# Altium integrated library Capacitors - Aluminum - Electrolytic SMT.IntLib: 1988 symbols (part 9 of 50)
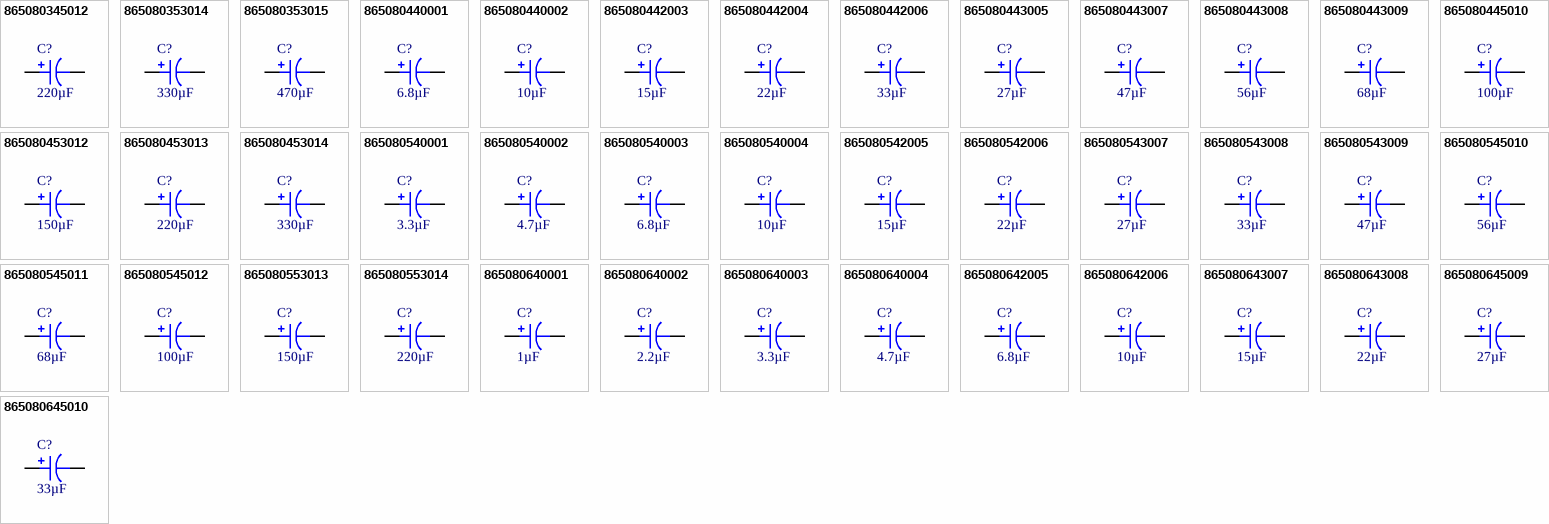
[diagram p57: symbols 865080345012 to 865080645010]

## 865080353015
designator C?, comment 470µF
CAP 470 UF 20% 16 V; Part Number: 865080353015; Manufacturer: Würth Elektronik; Impedance: 220 mOhms; Lifetime @ Temp.: 2000 Hrs @ 105°C; Polarization: Polar; Ripple Current @ High Frequency: 590mA @ 100kHz; Ripple Current @ Low Frequency: 383.5mA @ 120Hz; Surface Mount Land Size: 0.327" L x 0.327" W (8.30mm x 8.30mm); Voltage - Rated: 16V; Applications: General Purpose; Capacitance: 470µF; ComponentLink1Description: Datasheet; ComponentLink1URL: https://katalog.we-online.de/pbs/datasheet/865080353015.pdf; ComponentLink2Description: DigiKey Link; ComponentLink2URL: http://digikey.com/product-detail/en/w-rth-elektronik/865080353015/732-8425-1-ND/5728382; Device Package: Radial, Can - SMD; Height - Seated (Max): 0.413" (10.50mm); LastUpdated: 9/2/2020 1:25:14 AM; Lifecycle Status: Active; Minimum Order: 1; Mounting Type: Surface Mount; Operating Temperature: -55°C ~ 105°C; Package / Case: Radial, Can - SMD; Packaging: TapeAndReel; PartId: 7719; Part Status: Active; Price: 0.34; Series: WCAP-ASLI; Size / Dimension: 0.315" Dia (8.00mm); Supplier 1: DigiKey; Supplier Part Number 1: 732-8425-1-ND; Tolerance: ±20%; Value: 470µF
footprint CAP ALSMD 8.3MM H10.5MM
pins: 1, 2

## 865080440001
designator C?, comment 6.8µF
CAP 6.8 UF 20% 25 V; Part Number: 865080440001; Manufacturer: Würth Elektronik; Impedance: 2.8 Ohms; Lifetime @ Temp.: 2000 Hrs @ 105°C; Polarization: Polar; Ripple Current @ High Frequency: 70mA @ 100kHz; Ripple Current @ Low Frequency: 41.3mA @ 120Hz; Surface Mount Land Size: 0.169" L x 0.169" W (4.30mm x 4.30mm); Voltage - Rated: 25V; Applications: General Purpose; Capacitance: 6.8µF; ComponentLink1Description: Datasheet; ComponentLink1URL: https://katalog.we-online.de/pbs/datasheet/865080440001.pdf; ComponentLink2Description: DigiKey Link; ComponentLink2URL: http://digikey.com/product-detail/en/w-rth-elektronik/865080440001/732-8429-1-ND/5728386; Device Package: Radial, Can - SMD; Height - Seated (Max): 0.217" (5.50mm); LastUpdated: 9/2/2020 1:23:45 AM; Lifecycle Status: Active; Minimum Order: 1; Mounting Type: Surface Mount; Operating Temperature: -55°C ~ 105°C; Package / Case: Radial, Can - SMD; Packaging: TapeAndReel; PartId: 7395; Part Status: Active; Price: 0.09; Series: WCAP-ASLI; Size / Dimension: 0.157" Dia (4.00mm); Supplier 1: DigiKey; Supplier Part Number 1: 732-8429-1-ND; Tolerance: ±20%; Value: 6.8µF
footprint CAP ALSMD POLY 4.3MM H5.5MM
pins: 1, 2

## 865080440002
designator C?, comment 10µF
CAP 10 UF 20% 25 V; Part Number: 865080440002; Manufacturer: Würth Elektronik; Impedance: 2.1 Ohms; Lifetime @ Temp.: 2000 Hrs @ 105°C; Polarization: Polar; Ripple Current @ High Frequency: 85mA @ 100kHz; Ripple Current @ Low Frequency: 50.15mA @ 120Hz; Surface Mount Land Size: 0.169" L x 0.169" W (4.30mm x 4.30mm); Voltage - Rated: 25V; Applications: General Purpose; Capacitance: 10µF; ComponentLink1Description: Datasheet; ComponentLink1URL: https://katalog.we-online.de/pbs/datasheet/865080440002.pdf; ComponentLink2Description: DigiKey Link; ComponentLink2URL: http://digikey.com/product-detail/en/w-rth-elektronik/865080440002/732-8430-1-ND/5728387; Device Package: Radial, Can - SMD; Height - Seated (Max): 0.217" (5.50mm); LastUpdated: 9/2/2020 1:23:44 AM; Lifecycle Status: Active; Minimum Order: 1; Mounting Type: Surface Mount; Operating Temperature: -55°C ~ 105°C; Package / Case: Radial, Can - SMD; Packaging: TapeAndReel; PartId: 7399; Part Status: Active; Price: 0.09; Series: WCAP-ASLI; Size / Dimension: 0.157" Dia (4.00mm); Supplier 1: DigiKey; Supplier Part Number 1: 732-8430-1-ND; Tolerance: ±20%; Value: 10µF
footprint CAP ALSMD POLY 4.3MM H5.5MM
pins: 1, 2

## 865080442003
designator C?, comment 15µF
CAP 15 UF 20% 25 V; Part Number: 865080442003; Manufacturer: Würth Elektronik; Impedance: 1.9 Ohms; Lifetime @ Temp.: 2000 Hrs @ 105°C; Polarization: Polar; Ripple Current @ High Frequency: 125mA @ 100kHz; Ripple Current @ Low Frequency: 81.25mA @ 120Hz; Surface Mount Land Size: 0.209" L x 0.209" W (5.30mm x 5.30mm); Voltage - Rated: 25V; Applications: General Purpose; Capacitance: 15µF; ComponentLink1Description: Datasheet; ComponentLink1URL: https://katalog.we-online.de/pbs/datasheet/865080442003.pdf; ComponentLink2Description: DigiKey Link; ComponentLink2URL: http://digikey.com/product-detail/en/w-rth-elektronik/865080442003/732-8431-1-ND/5728388; Device Package: Radial, Can - SMD; Height - Seated (Max): 0.217" (5.50mm); LastUpdated: 9/2/2020 1:25:24 AM; Lifecycle Status: Active; Minimum Order: 1; Mounting Type: Surface Mount; Operating Temperature: -55°C ~ 105°C; Package / Case: Radial, Can - SMD; Packaging: TapeAndReel; PartId: 7899; Part Status: Active; Price: 0.10; Series: WCAP-ASLI; Size / Dimension: 0.197" Dia (5.00mm); Supplier 1: DigiKey; Supplier Part Number 1: 732-8431-1-ND; Tolerance: ±20%; Value: 15µF
footprint CAP ALSMD 5.3MM H5.4MM
pins: 1, 2

## 865080442004
designator C?, comment 22µF
CAP 22 UF 20% 25 V; Part Number: 865080442004; Manufacturer: Würth Elektronik; Impedance: 1.2 Ohms; Lifetime @ Temp.: 2000 Hrs @ 105°C; Polarization: Polar; Ripple Current @ High Frequency: 145mA @ 100kHz; Ripple Current @ Low Frequency: 94.25mA @ 120Hz; Surface Mount Land Size: 0.209" L x 0.209" W (5.30mm x 5.30mm); Voltage - Rated: 25V; Applications: General Purpose; Capacitance: 22µF; ComponentLink1Description: Datasheet; ComponentLink1URL: https://katalog.we-online.de/pbs/datasheet/865080442004.pdf; ComponentLink2Description: DigiKey Link; ComponentLink2URL: http://digikey.com/product-detail/en/w-rth-elektronik/865080442004/732-8432-1-ND/5728389; Device Package: Radial, Can - SMD; Height - Seated (Max): 0.217" (5.50mm); LastUpdated: 9/2/2020 1:25:24 AM; Lifecycle Status: Active; Minimum Order: 1; Mounting Type: Surface Mount; Operating Temperature: -55°C ~ 105°C; Package / Case: Radial, Can - SMD; Packaging: TapeAndReel; PartId: 7897; Part Status: Active; Price: 0.10; Series: WCAP-ASLI; Size / Dimension: 0.197" Dia (5.00mm); Supplier 1: DigiKey; Supplier Part Number 1: 732-8432-1-ND; Tolerance: ±20%; Value: 22µF
footprint CAP ALSMD 5.3MM H5.4MM
pins: 1, 2

## 865080442006
designator C?, comment 33µF
CAP 33 UF 20% 25 V; Part Number: 865080442006; Manufacturer: Würth Elektronik; Impedance: 1.05 Ohms; Lifetime @ Temp.: 2000 Hrs @ 105°C; Polarization: Polar; Ripple Current @ High Frequency: 160mA @ 100kHz; Ripple Current @ Low Frequency: 104mA @ 120Hz; Surface Mount Land Size: 0.209" L x 0.209" W (5.30mm x 5.30mm); Voltage - Rated: 25V; Applications: General Purpose; Capacitance: 33µF; ComponentLink1Description: Datasheet; ComponentLink1URL: https://katalog.we-online.de/pbs/datasheet/865080442006.pdf; ComponentLink2Description: DigiKey Link; ComponentLink2URL: http://digikey.com/product-detail/en/w-rth-elektronik/865080442006/732-8434-1-ND/5728391; Device Package: Radial, Can - SMD; Height - Seated (Max): 0.217" (5.50mm); LastUpdated: 9/2/2020 1:25:23 AM; Lifecycle Status: Active; Minimum Order: 1; Mounting Type: Surface Mount; Operating Temperature: -55°C ~ 105°C; Package / Case: Radial, Can - SMD; Packaging: TapeAndReel; PartId: 7917; Part Status: Active; Price: 0.14; Series: WCAP-ASLI; Size / Dimension: 0.197" Dia (5.00mm); Supplier 1: DigiKey; Supplier Part Number 1: 732-8434-1-ND; Tolerance: ±20%; Value: 33µF
footprint CAP ALSMD 5.3MM H5.4MM
pins: 1, 2

## 865080443005
designator C?, comment 27µF
CAP 27 UF 20% 25 V; Part Number: 865080443005; Manufacturer: Würth Elektronik; Impedance: 620 mOhms; Lifetime @ Temp.: 2000 Hrs @ 105°C; Polarization: Polar; Ripple Current @ High Frequency: 200mA @ 100kHz; Ripple Current @ Low Frequency: 130mA @ 120Hz; Surface Mount Land Size: 0.260" L x 0.260" W (6.60mm x 6.60mm); Voltage - Rated: 25V; Applications: General Purpose; Capacitance: 27µF; ComponentLink1Description: Datasheet; ComponentLink1URL: https://katalog.we-online.de/pbs/datasheet/865080443005.pdf; ComponentLink2Description: DigiKey Link; ComponentLink2URL: http://digikey.com/product-detail/en/w-rth-elektronik/865080443005/732-8433-1-ND/5728390; Device Package: Radial, Can - SMD; Height - Seated (Max): 0.217" (5.50mm); LastUpdated: 9/2/2020 1:18:39 AM; Lifecycle Status: Active; Minimum Order: 1; Mounting Type: Surface Mount; Operating Temperature: -55°C ~ 105°C; Package / Case: Radial, Can - SMD; Packaging: TapeAndReel; PartId: 8993; Part Status: Active; Price: 0.13; Series: WCAP-ASLI; Size / Dimension: 0.248" Dia (6.30mm); Supplier 1: DigiKey; Supplier Part Number 1: 732-8433-1-ND; Tolerance: ±20%; Value: 27µF
footprint CAP ALSMD 6.6MM H6.1MM
pins: 1, 2

## 865080443007
designator C?, comment 47µF
CAP 47 UF 20% 25 V; Part Number: 865080443007; Manufacturer: Würth Elektronik; Impedance: 560 mOhms; Lifetime @ Temp.: 2000 Hrs @ 105°C; Polarization: Polar; Ripple Current @ High Frequency: 220mA @ 100kHz; Ripple Current @ Low Frequency: 143mA @ 120Hz; Surface Mount Land Size: 0.260" L x 0.260" W (6.60mm x 6.60mm); Voltage - Rated: 25V; Applications: General Purpose; Capacitance: 47µF; ComponentLink1Description: Datasheet; ComponentLink1URL: https://katalog.we-online.de/pbs/datasheet/865080443007.pdf; ComponentLink2Description: DigiKey Link; ComponentLink2URL: http://digikey.com/product-detail/en/w-rth-elektronik/865080443007/732-8435-1-ND/5728392; Device Package: Radial, Can - SMD; Height - Seated (Max): 0.217" (5.50mm); LastUpdated: 9/2/2020 1:18:39 AM; Lifecycle Status: Active; Minimum Order: 1; Mounting Type: Surface Mount; Operating Temperature: -55°C ~ 105°C; Package / Case: Radial, Can - SMD; Packaging: TapeAndReel; PartId: 8980; Part Status: Active; Price: 0.14; Series: WCAP-ASLI; Size / Dimension: 0.248" Dia (6.30mm); Supplier 1: DigiKey; Supplier Part Number 1: 732-8435-1-ND; Tolerance: ±20%; Value: 47µF
footprint CAP ALSMD 6.6MM H6.1MM
pins: 1, 2

## 865080443008
designator C?, comment 56µF
CAP 56 UF 20% 25 V; Part Number: 865080443008; Manufacturer: Würth Elektronik; Impedance: 540 mOhms; Lifetime @ Temp.: 2000 Hrs @ 105°C; Polarization: Polar; Ripple Current @ High Frequency: 230mA @ 100kHz; Ripple Current @ Low Frequency: 149.5mA @ 120Hz; Surface Mount Land Size: 0.260" L x 0.260" W (6.60mm x 6.60mm); Voltage - Rated: 25V; Applications: General Purpose; Capacitance: 56µF; ComponentLink1Description: Datasheet; ComponentLink1URL: https://katalog.we-online.de/pbs/datasheet/865080443008.pdf; ComponentLink2Description: DigiKey Link; ComponentLink2URL: http://digikey.com/product-detail/en/w-rth-elektronik/865080443008/732-8436-1-ND/5728393; Device Package: Radial, Can - SMD; Height - Seated (Max): 0.217" (5.50mm); LastUpdated: 9/2/2020 1:18:39 AM; Lifecycle Status: Active; Minimum Order: 1; Mounting Type: Surface Mount; Operating Temperature: -55°C ~ 105°C; Package / Case: Radial, Can - SMD; Packaging: TapeAndReel; PartId: 8973; Part Status: Active; Price: 0.14; Series: WCAP-ASLI; Size / Dimension: 0.248" Dia (6.30mm); Supplier 1: DigiKey; Supplier Part Number 1: 732-8436-1-ND; Tolerance: ±20%; Value: 56µF
footprint CAP ALSMD 6.6MM H6.1MM
pins: 1, 2

## 865080443009
designator C?, comment 68µF
CAP 68 UF 20% 25 V; Part Number: 865080443009; Manufacturer: Würth Elektronik; Impedance: 480 mOhms; Lifetime @ Temp.: 2000 Hrs @ 105°C; Polarization: Polar; Ripple Current @ High Frequency: 240mA @ 100kHz; Ripple Current @ Low Frequency: 156mA @ 120Hz; Surface Mount Land Size: 0.260" L x 0.260" W (6.60mm x 6.60mm); Voltage - Rated: 25V; Applications: General Purpose; Capacitance: 68µF; ComponentLink1Description: Datasheet; ComponentLink1URL: https://katalog.we-online.de/pbs/datasheet/865080443009.pdf; ComponentLink2Description: DigiKey Link; ComponentLink2URL: http://digikey.com/product-detail/en/w-rth-elektronik/865080443009/732-8437-1-ND/5728394; Device Package: Radial, Can - SMD; Height - Seated (Max): 0.217" (5.50mm); LastUpdated: 9/2/2020 1:18:39 AM; Lifecycle Status: Active; Minimum Order: 1; Mounting Type: Surface Mount; Operating Temperature: -55°C ~ 105°C; Package / Case: Radial, Can - SMD; Packaging: TapeAndReel; PartId: 8987; Part Status: Active; Price: 0.14; Series: WCAP-ASLI; Size / Dimension: 0.248" Dia (6.30mm); Supplier 1: DigiKey; Supplier Part Number 1: 732-8437-1-ND; Tolerance: ±20%; Value: 68µF
footprint CAP ALSMD 6.6MM H6.1MM
pins: 1, 2

## 865080445010
designator C?, comment 100µF
CAP 100 UF 20% 25 V; Part Number: 865080445010; Manufacturer: Würth Elektronik; Impedance: 380 mOhms; Lifetime @ Temp.: 2000 Hrs @ 105°C; Polarization: Polar; Ripple Current @ High Frequency: 290mA @ 100kHz; Ripple Current @ Low Frequency: 188.5mA @ 120Hz; Surface Mount Land Size: 0.260" L x 0.260" W (6.60mm x 6.60mm); Voltage - Rated: 25V; Applications: General Purpose; Capacitance: 100µF; ComponentLink1Description: Datasheet; ComponentLink1URL: https://katalog.we-online.de/pbs/datasheet/865080445010.pdf; ComponentLink2Description: DigiKey Link; ComponentLink2URL: http://digikey.com/product-detail/en/w-rth-elektronik/865080445010/732-8438-1-ND/5728395; Device Package: Radial, Can - SMD; Height - Seated (Max): 0.303" (7.70mm); LastUpdated: 9/2/2020 1:25:35 AM; Lifecycle Status: Active; Minimum Order: 1; Mounting Type: Surface Mount; Operating Temperature: -55°C ~ 105°C; Package / Case: Radial, Can - SMD; Packaging: TapeAndReel; PartId: 8228; Part Status: Active; Price: 0.18; Series: WCAP-ASLI; Size / Dimension: 0.248" Dia (6.30mm); Supplier 1: DigiKey; Supplier Part Number 1: 732-8438-1-ND; Tolerance: ±20%; Value: 100µF
footprint CAP ALSMD 6.6MM H7.7MM
pins: 1, 2

## 865080453012
designator C?, comment 150µF
CAP 150 UF 20% 25 V; Part Number: 865080453012; Manufacturer: Würth Elektronik; Impedance: 250 mOhms; Lifetime @ Temp.: 2000 Hrs @ 105°C; Polarization: Polar; Ripple Current @ High Frequency: 480mA @ 100kHz; Ripple Current @ Low Frequency: 312mA @ 120Hz; Surface Mount Land Size: 0.327" L x 0.327" W (8.30mm x 8.30mm); Voltage - Rated: 25V; Applications: General Purpose; Capacitance: 150µF; ComponentLink1Description: Datasheet; ComponentLink1URL: https://katalog.we-online.de/pbs/datasheet/865080453012.pdf; ComponentLink2Description: DigiKey Link; ComponentLink2URL: http://digikey.com/product-detail/en/w-rth-elektronik/865080453012/732-8440-1-ND/5728397; Device Package: Radial, Can - SMD; Height - Seated (Max): 0.413" (10.50mm); LastUpdated: 9/2/2020 1:25:16 AM; Lifecycle Status: Active; Minimum Order: 1; Mounting Type: Surface Mount; Operating Temperature: -55°C ~ 105°C; Package / Case: Radial, Can - SMD; Packaging: TapeAndReel; PartId: 7452; Part Status: Active; Price: 0.29; Series: WCAP-ASLI; Size / Dimension: 0.315" Dia (8.00mm); Supplier 1: DigiKey; Supplier Part Number 1: 732-8440-1-ND; Tolerance: ±20%; Value: 150µF
footprint CAP ALSMD 8.3MM H10.5MM
pins: 1, 2

## 865080453013
designator C?, comment 220µF
CAP 220 UF 20% 25 V; Part Number: 865080453013; Manufacturer: Würth Elektronik; Impedance: 220 mOhms; Lifetime @ Temp.: 2000 Hrs @ 105°C; Polarization: Polar; Ripple Current @ High Frequency: 530mA @ 100kHz; Ripple Current @ Low Frequency: 344.5mA @ 120Hz; Surface Mount Land Size: 0.327" L x 0.327" W (8.30mm x 8.30mm); Voltage - Rated: 25V; Applications: General Purpose; Capacitance: 220µF; ComponentLink1Description: Datasheet; ComponentLink1URL: https://katalog.we-online.de/pbs/datasheet/865080453013.pdf; ComponentLink2Description: DigiKey Link; ComponentLink2URL: http://digikey.com/product-detail/en/w-rth-elektronik/865080453013/732-8441-1-ND/5728398; Device Package: Radial, Can - SMD; Height - Seated (Max): 0.413" (10.50mm); LastUpdated: 9/2/2020 1:25:14 AM; Lifecycle Status: Active; Minimum Order: 1; Mounting Type: Surface Mount; Operating Temperature: -55°C ~ 105°C; Package / Case: Radial, Can - SMD; Packaging: TapeAndReel; PartId: 7712; Part Status: Active; Price: 0.32; Series: WCAP-ASLI; Size / Dimension: 0.315" Dia (8.00mm); Supplier 1: DigiKey; Supplier Part Number 1: 732-8441-1-ND; Tolerance: ±20%; Value: 220µF
footprint CAP ALSMD 8.3MM H10.5MM
pins: 1, 2

## 865080453014
designator C?, comment 330µF
CAP 330 UF 20% 25 V; Part Number: 865080453014; Manufacturer: Würth Elektronik; Impedance: 200 mOhms; Lifetime @ Temp.: 2000 Hrs @ 105°C; Polarization: Polar; Ripple Current @ High Frequency: 570mA @ 100kHz; Ripple Current @ Low Frequency: 370.5mA @ 120Hz; Surface Mount Land Size: 0.327" L x 0.327" W (8.30mm x 8.30mm); Voltage - Rated: 25V; Applications: General Purpose; Capacitance: 330µF; ComponentLink1Description: Datasheet; ComponentLink1URL: https://katalog.we-online.de/pbs/datasheet/865080453014.pdf; ComponentLink2Description: DigiKey Link; ComponentLink2URL: http://digikey.com/product-detail/en/w-rth-elektronik/865080453014/732-8442-1-ND/5728399; Device Package: Radial, Can - SMD; Height - Seated (Max): 0.413" (10.50mm); LastUpdated: 9/2/2020 1:25:16 AM; Lifecycle Status: Active; Minimum Order: 1; Mounting Type: Surface Mount; Operating Temperature: -55°C ~ 105°C; Package / Case: Radial, Can - SMD; Packaging: TapeAndReel; PartId: 7460; Part Status: Active; Price: 0.36; Series: WCAP-ASLI; Size / Dimension: 0.315" Dia (8.00mm); Supplier 1: DigiKey; Supplier Part Number 1: 732-8442-1-ND; Tolerance: ±20%; Value: 330µF
footprint CAP ALSMD 8.3MM H10.5MM
pins: 1, 2

## 865080540001
designator C?, comment 3.3µF
CAP 3.3 UF 20% 35 V; Part Number: 865080540001; Manufacturer: Würth Elektronik; Impedance: 2.8 Ohms; Lifetime @ Temp.: 2000 Hrs @ 105°C; Polarization: Polar; Ripple Current @ High Frequency: 80mA @ 100kHz; Ripple Current @ Low Frequency: 47.2mA @ 120Hz; Surface Mount Land Size: 0.169" L x 0.169" W (4.30mm x 4.30mm); Voltage - Rated: 35V; Applications: General Purpose; Capacitance: 3.3µF; ComponentLink1Description: Datasheet; ComponentLink1URL: https://katalog.we-online.de/pbs/datasheet/865080540001.pdf; ComponentLink2Description: DigiKey Link; ComponentLink2URL: http://digikey.com/product-detail/en/w-rth-elektronik/865080540001/732-8500-1-ND/5728457; Device Package: Radial, Can - SMD; Height - Seated (Max): 0.217" (5.50mm); LastUpdated: 9/2/2020 1:23:43 AM; Lifecycle Status: Active; Minimum Order: 1; Mounting Type: Surface Mount; Operating Temperature: -55°C ~ 105°C; Package / Case: Radial, Can - SMD; Packaging: TapeAndReel; PartId: 7432; Part Status: Active; Price: 0.09; Series: WCAP-ASLI; Size / Dimension: 0.157" Dia (4.00mm); Supplier 1: DigiKey; Supplier Part Number 1: 732-8500-1-ND; Tolerance: ±20%; Value: 3.3µF
footprint CAP ALSMD POLY 4.3MM H5.5MM
pins: 1, 2

## 865080540002
designator C?, comment 4.7µF
CAP 4.7 UF 20% 35 V; Part Number: 865080540002; Manufacturer: Würth Elektronik; Impedance: 2.5 Ohms; Lifetime @ Temp.: 2000 Hrs @ 105°C; Polarization: Polar; Ripple Current @ High Frequency: 85mA @ 100kHz; Ripple Current @ Low Frequency: 50.15mA @ 120Hz; Surface Mount Land Size: 0.169" L x 0.169" W (4.30mm x 4.30mm); Voltage - Rated: 35V; Applications: General Purpose; Capacitance: 4.7µF; ComponentLink1Description: Datasheet; ComponentLink1URL: https://katalog.we-online.de/pbs/datasheet/865080540002.pdf; ComponentLink2Description: DigiKey Link; ComponentLink2URL: http://digikey.com/product-detail/en/w-rth-elektronik/865080540002/732-8501-1-ND/5728458; Device Package: Radial, Can - SMD; Height - Seated (Max): 0.217" (5.50mm); LastUpdated: 9/2/2020 1:23:45 AM; Lifecycle Status: Active; Minimum Order: 1; Mounting Type: Surface Mount; Operating Temperature: -55°C ~ 105°C; Package / Case: Radial, Can - SMD; Packaging: TapeAndReel; PartId: 7359; Part Status: Active; Price: 0.09; Series: WCAP-ASLI; Size / Dimension: 0.157" Dia (4.00mm); Supplier 1: DigiKey; Supplier Part Number 1: 732-8501-1-ND; Tolerance: ±20%; Value: 4.7µF
footprint CAP ALSMD POLY 4.3MM H5.5MM
pins: 1, 2

## 865080540003
designator C?, comment 6.8µF
CAP 6.8 UF 20% 35 V; Part Number: 865080540003; Manufacturer: Würth Elektronik; Impedance: 2.2 Ohms; Lifetime @ Temp.: 2000 Hrs @ 105°C; Polarization: Polar; Ripple Current @ High Frequency: 88mA @ 100kHz; Ripple Current @ Low Frequency: 51.92mA @ 120Hz; Surface Mount Land Size: 0.169" L x 0.169" W (4.30mm x 4.30mm); Voltage - Rated: 35V; Applications: General Purpose; Capacitance: 6.8µF; ComponentLink1Description: Datasheet; ComponentLink1URL: https://katalog.we-online.de/pbs/datasheet/865080540003.pdf; ComponentLink2Description: DigiKey Link; ComponentLink2URL: http://digikey.com/product-detail/en/w-rth-elektronik/865080540003/732-8502-1-ND/5728459; Device Package: Radial, Can - SMD; Height - Seated (Max): 0.217" (5.50mm); LastUpdated: 9/2/2020 1:23:45 AM; Lifecycle Status: Active; Minimum Order: 1; Mounting Type: Surface Mount; Operating Temperature: -55°C ~ 105°C; Package / Case: Radial, Can - SMD; Packaging: TapeAndReel; PartId: 7371; Part Status: Active; Price: 0.10; Series: WCAP-ASLI; Size / Dimension: 0.157" Dia (4.00mm); Supplier 1: DigiKey; Supplier Part Number 1: 732-8502-1-ND; Tolerance: ±20%; Value: 6.8µF
footprint CAP ALSMD POLY 4.3MM H5.5MM
pins: 1, 2

## 865080540004
designator C?, comment 10µF
CAP 10 UF 20% 35 V; Part Number: 865080540004; Manufacturer: Würth Elektronik; Impedance: 2 Ohms; Lifetime @ Temp.: 2000 Hrs @ 105°C; Polarization: Polar; Ripple Current @ High Frequency: 90mA @ 100kHz; Ripple Current @ Low Frequency: 53.1mA @ 120Hz; Surface Mount Land Size: 0.169" L x 0.169" W (4.30mm x 4.30mm); Voltage - Rated: 35V; Applications: General Purpose; Capacitance: 10µF; ComponentLink1Description: Datasheet; ComponentLink1URL: https://katalog.we-online.de/pbs/datasheet/865080540004.pdf; ComponentLink2Description: DigiKey Link; ComponentLink2URL: http://digikey.com/product-detail/en/w-rth-elektronik/865080540004/732-8503-1-ND/5728460; Device Package: Radial, Can - SMD; Height - Seated (Max): 0.217" (5.50mm); LastUpdated: 9/2/2020 1:23:45 AM; Lifecycle Status: Active; Minimum Order: 1; Mounting Type: Surface Mount; Operating Temperature: -55°C ~ 105°C; Package / Case: Radial, Can - SMD; Packaging: TapeAndReel; PartId: 7376; Part Status: Active; Price: 0.10; Series: WCAP-ASLI; Size / Dimension: 0.157" Dia (4.00mm); Supplier 1: DigiKey; Supplier Part Number 1: 732-8503-1-ND; Tolerance: ±20%; Value: 10µF
footprint CAP ALSMD POLY 4.3MM H5.5MM
pins: 1, 2

## 865080542005
designator C?, comment 15µF
CAP 15 UF 20% 35 V; Part Number: 865080542005; Manufacturer: Würth Elektronik; Impedance: 1.2 Ohms; Lifetime @ Temp.: 2000 Hrs @ 105°C; Polarization: Polar; Ripple Current @ High Frequency: 140mA @ 100kHz; Ripple Current @ Low Frequency: 91mA @ 120Hz; Surface Mount Land Size: 0.209" L x 0.209" W (5.30mm x 5.30mm); Voltage - Rated: 35V; Applications: General Purpose; Capacitance: 15µF; ComponentLink1Description: Datasheet; ComponentLink1URL: https://katalog.we-online.de/pbs/datasheet/865080542005.pdf; ComponentLink2Description: DigiKey Link; ComponentLink2URL: http://digikey.com/product-detail/en/w-rth-elektronik/865080542005/732-8504-1-ND/5728461; Device Package: Radial, Can - SMD; Height - Seated (Max): 0.217" (5.50mm); LastUpdated: 9/2/2020 1:25:24 AM; Lifecycle Status: Active; Minimum Order: 1; Mounting Type: Surface Mount; Operating Temperature: -55°C ~ 105°C; Package / Case: Radial, Can - SMD; Packaging: TapeAndReel; PartId: 7900; Part Status: Active; Price: 0.11; Series: WCAP-ASLI; Size / Dimension: 0.197" Dia (5.00mm); Supplier 1: DigiKey; Supplier Part Number 1: 732-8504-1-ND; Tolerance: ±20%; Value: 15µF
footprint CAP ALSMD 5.3MM H5.4MM
pins: 1, 2

## 865080542006
designator C?, comment 22µF
CAP 22 UF 20% 35 V; Part Number: 865080542006; Manufacturer: Würth Elektronik; Impedance: 1.1 Ohms; Lifetime @ Temp.: 2000 Hrs @ 105°C; Polarization: Polar; Ripple Current @ High Frequency: 155mA @ 100kHz; Ripple Current @ Low Frequency: 100.75mA @ 120Hz; Surface Mount Land Size: 0.209" L x 0.209" W (5.30mm x 5.30mm); Voltage - Rated: 35V; Applications: General Purpose; Capacitance: 22µF; ComponentLink1Description: Datasheet; ComponentLink1URL: https://katalog.we-online.de/pbs/datasheet/865080542006.pdf; ComponentLink2Description: DigiKey Link; ComponentLink2URL: http://digikey.com/product-detail/en/w-rth-elektronik/865080542006/732-8505-1-ND/5728462; Device Package: Radial, Can - SMD; Height - Seated (Max): 0.217" (5.50mm); LastUpdated: 9/2/2020 1:25:24 AM; Lifecycle Status: Active; Minimum Order: 1; Mounting Type: Surface Mount; Operating Temperature: -55°C ~ 105°C; Package / Case: Radial, Can - SMD; Packaging: TapeAndReel; PartId: 7902; Part Status: Active; Price: 0.11; Series: WCAP-ASLI; Size / Dimension: 0.197" Dia (5.00mm); Supplier 1: DigiKey; Supplier Part Number 1: 732-8505-1-ND; Tolerance: ±20%; Value: 22µF
footprint CAP ALSMD 5.3MM H5.4MM
pins: 1, 2

## 865080543007
designator C?, comment 27µF
CAP 27 UF 20% 35 V; Part Number: 865080543007; Manufacturer: Würth Elektronik; Impedance: 600 mOhms; Lifetime @ Temp.: 2000 Hrs @ 105°C; Polarization: Polar; Ripple Current @ High Frequency: 210mA @ 100kHz; Ripple Current @ Low Frequency: 136.5mA @ 120Hz; Surface Mount Land Size: 0.260" L x 0.260" W (6.60mm x 6.60mm); Voltage - Rated: 35V; Applications: General Purpose; Capacitance: 27µF; ComponentLink1Description: Datasheet; ComponentLink1URL: https://katalog.we-online.de/pbs/datasheet/865080543007.pdf; ComponentLink2Description: DigiKey Link; ComponentLink2URL: http://digikey.com/product-detail/en/w-rth-elektronik/865080543007/732-8506-1-ND/5728463; Device Package: Radial, Can - SMD; Height - Seated (Max): 0.217" (5.50mm); LastUpdated: 9/2/2020 1:18:39 AM; Lifecycle Status: Active; Minimum Order: 1; Mounting Type: Surface Mount; Operating Temperature: -55°C ~ 105°C; Package / Case: Radial, Can - SMD; Packaging: TapeAndReel; PartId: 8990; Part Status: Active; Price: 0.14; Series: WCAP-ASLI; Size / Dimension: 0.248" Dia (6.30mm); Supplier 1: DigiKey; Supplier Part Number 1: 732-8506-1-ND; Tolerance: ±20%; Value: 27µF
footprint CAP ALSMD 6.6MM H6.1MM
pins: 1, 2

## 865080543008
designator C?, comment 33µF
CAP 33 UF 20% 35 V; Part Number: 865080543008; Manufacturer: Würth Elektronik; Impedance: 540 mOhms; Lifetime @ Temp.: 2000 Hrs @ 105°C; Polarization: Polar; Ripple Current @ High Frequency: 240mA @ 100kHz; Ripple Current @ Low Frequency: 156mA @ 120Hz; Surface Mount Land Size: 0.260" L x 0.260" W (6.60mm x 6.60mm); Voltage - Rated: 35V; Applications: General Purpose; Capacitance: 33µF; ComponentLink1Description: Datasheet; ComponentLink1URL: https://katalog.we-online.de/pbs/datasheet/865080543008.pdf; ComponentLink2Description: DigiKey Link; ComponentLink2URL: http://digikey.com/product-detail/en/w-rth-elektronik/865080543008/732-8507-1-ND/5728464; Device Package: Radial, Can - SMD; Height - Seated (Max): 0.217" (5.50mm); LastUpdated: 9/2/2020 1:18:39 AM; Lifecycle Status: Active; Minimum Order: 1; Mounting Type: Surface Mount; Operating Temperature: -55°C ~ 105°C; Package / Case: Radial, Can - SMD; Packaging: TapeAndReel; PartId: 8979; Part Status: Active; Price: 0.14; Series: WCAP-ASLI; Size / Dimension: 0.248" Dia (6.30mm); Supplier 1: DigiKey; Supplier Part Number 1: 732-8507-1-ND; Tolerance: ±20%; Value: 33µF
footprint CAP ALSMD 6.6MM H6.1MM
pins: 1, 2

## 865080543009
designator C?, comment 47µF
CAP 47 UF 20% 35 V; Part Number: 865080543009; Manufacturer: Würth Elektronik; Impedance: 530 mOhms; Lifetime @ Temp.: 2000 Hrs @ 105°C; Polarization: Polar; Ripple Current @ High Frequency: 240mA @ 100kHz; Ripple Current @ Low Frequency: 156mA @ 120Hz; Surface Mount Land Size: 0.260" L x 0.260" W (6.60mm x 6.60mm); Voltage - Rated: 35V; Applications: General Purpose; Capacitance: 47µF; ComponentLink1Description: Datasheet; ComponentLink1URL: https://katalog.we-online.de/pbs/datasheet/865080543009.pdf; ComponentLink2Description: DigiKey Link; ComponentLink2URL: http://digikey.com/product-detail/en/w-rth-elektronik/865080543009/732-8508-1-ND/5728465; Device Package: Radial, Can - SMD; Height - Seated (Max): 0.217" (5.50mm); LastUpdated: 9/2/2020 1:18:36 AM; Lifecycle Status: Active; Minimum Order: 1; Mounting Type: Surface Mount; Operating Temperature: -55°C ~ 105°C; Package / Case: Radial, Can - SMD; Packaging: TapeAndReel; PartId: 8822; Part Status: Active; Price: 0.14; Series: WCAP-ASLI; Size / Dimension: 0.248" Dia (6.30mm); Supplier 1: DigiKey; Supplier Part Number 1: 732-8508-1-ND; Tolerance: ±20%; Value: 47µF
footprint CAP ALSMD 6.6MM H6.1MM
pins: 1, 2

## 865080545010
designator C?, comment 56µF
CAP 56 UF 20% 35 V; Part Number: 865080545010; Manufacturer: Würth Elektronik; Impedance: 490 mOhms; Lifetime @ Temp.: 2000 Hrs @ 105°C; Polarization: Polar; Ripple Current @ High Frequency: 250mA @ 100kHz; Ripple Current @ Low Frequency: 162.5mA @ 120Hz; Surface Mount Land Size: 0.260" L x 0.260" W (6.60mm x 6.60mm); Voltage - Rated: 35V; Applications: General Purpose; Capacitance: 56µF; ComponentLink1Description: Datasheet; ComponentLink1URL: https://katalog.we-online.de/pbs/datasheet/865080545010.pdf; ComponentLink2Description: DigiKey Link; ComponentLink2URL: http://digikey.com/product-detail/en/w-rth-elektronik/865080545010/732-8509-1-ND/5728466; Device Package: Radial, Can - SMD; Height - Seated (Max): 0.303" (7.70mm); LastUpdated: 9/2/2020 1:25:34 AM; Lifecycle Status: Active; Minimum Order: 1; Mounting Type: Surface Mount; Operating Temperature: -55°C ~ 105°C; Package / Case: Radial, Can - SMD; Packaging: TapeAndReel; PartId: 8302; Part Status: Active; Price: 0.18; Series: WCAP-ASLI; Size / Dimension: 0.248" Dia (6.30mm); Supplier 1: DigiKey; Supplier Part Number 1: 732-8509-1-ND; Tolerance: ±20%; Value: 56µF
footprint CAP ALSMD 6.6MM H7.7MM
pins: 1, 2

## 865080545011
designator C?, comment 68µF
CAP 68 UF 20% 35 V; Part Number: 865080545011; Manufacturer: Würth Elektronik; Impedance: 400 mOhms; Lifetime @ Temp.: 2000 Hrs @ 105°C; Polarization: Polar; Ripple Current @ High Frequency: 265mA @ 100kHz; Ripple Current @ Low Frequency: 172.25mA @ 120Hz; Surface Mount Land Size: 0.260" L x 0.260" W (6.60mm x 6.60mm); Voltage - Rated: 35V; Applications: General Purpose; Capacitance: 68µF; ComponentLink1Description: Datasheet; ComponentLink1URL: https://katalog.we-online.de/pbs/datasheet/865080545011.pdf; ComponentLink2Description: DigiKey Link; ComponentLink2URL: http://digikey.com/product-detail/en/w-rth-elektronik/865080545011/732-8510-1-ND/5728467; Device Package: Radial, Can - SMD; Height - Seated (Max): 0.303" (7.70mm); LastUpdated: 9/2/2020 1:25:34 AM; Lifecycle Status: Active; Minimum Order: 1; Mounting Type: Surface Mount; Operating Temperature: -55°C ~ 105°C; Package / Case: Radial, Can - SMD; Packaging: TapeAndReel; PartId: 8305; Part Status: Active; Price: 0.19; Series: WCAP-ASLI; Size / Dimension: 0.248" Dia (6.30mm); Supplier 1: DigiKey; Supplier Part Number 1: 732-8510-1-ND; Tolerance: ±20%; Value: 68µF
footprint CAP ALSMD 6.6MM H7.7MM
pins: 1, 2

## 865080545012
designator C?, comment 100µF
CAP 100 UF 20% 35 V; Part Number: 865080545012; Manufacturer: Würth Elektronik; Impedance: 380 mOhms; Lifetime @ Temp.: 2000 Hrs @ 105°C; Polarization: Polar; Ripple Current @ High Frequency: 300mA @ 100kHz; Ripple Current @ Low Frequency: 195mA @ 120Hz; Surface Mount Land Size: 0.260" L x 0.260" W (6.60mm x 6.60mm); Voltage - Rated: 35V; Applications: General Purpose; Capacitance: 100µF; ComponentLink1Description: Datasheet; ComponentLink1URL: https://katalog.we-online.de/pbs/datasheet/865080545012.pdf; ComponentLink2Description: DigiKey Link; ComponentLink2URL: http://digikey.com/product-detail/en/w-rth-elektronik/865080545012/732-8511-1-ND/5728468; Device Package: Radial, Can - SMD; Height - Seated (Max): 0.303" (7.70mm); LastUpdated: 9/2/2020 1:25:34 AM; Lifecycle Status: Active; Minimum Order: 1; Mounting Type: Surface Mount; Operating Temperature: -55°C ~ 105°C; Package / Case: Radial, Can - SMD; Packaging: TapeAndReel; PartId: 8307; Part Status: Active; Price: 0.19; Series: WCAP-ASLI; Size / Dimension: 0.248" Dia (6.30mm); Supplier 1: DigiKey; Supplier Part Number 1: 732-8511-1-ND; Tolerance: ±20%; Value: 100µF
footprint CAP ALSMD 6.6MM H7.7MM
pins: 1, 2

## 865080553013
designator C?, comment 150µF
CAP 150 UF 20% 35 V; Part Number: 865080553013; Manufacturer: Würth Elektronik; Impedance: 240 mOhms; Lifetime @ Temp.: 2000 Hrs @ 105°C; Polarization: Polar; Ripple Current @ High Frequency: 510mA @ 100kHz; Ripple Current @ Low Frequency: 331.5mA @ 120Hz; Surface Mount Land Size: 0.327" L x 0.327" W (8.30mm x 8.30mm); Voltage - Rated: 35V; Applications: General Purpose; Capacitance: 150µF; ComponentLink1Description: Datasheet; ComponentLink1URL: https://katalog.we-online.de/pbs/datasheet/865080553013.pdf; ComponentLink2Description: DigiKey Link; ComponentLink2URL: http://digikey.com/product-detail/en/w-rth-elektronik/865080553013/732-8512-1-ND/5728469; Device Package: Radial, Can - SMD; Height - Seated (Max): 0.413" (10.50mm); LastUpdated: 9/2/2020 1:25:14 AM; Lifecycle Status: Active; Minimum Order: 1; Mounting Type: Surface Mount; Operating Temperature: -55°C ~ 105°C; Package / Case: Radial, Can - SMD; Packaging: TapeAndReel; PartId: 7713; Part Status: Active; Price: 0.32; Series: WCAP-ASLI; Size / Dimension: 0.315" Dia (8.00mm); Supplier 1: DigiKey; Supplier Part Number 1: 732-8512-1-ND; Tolerance: ±20%; Value: 150µF
footprint CAP ALSMD 8.3MM H10.5MM
pins: 1, 2

## 865080553014
designator C?, comment 220µF
CAP 220 UF 20% 35 V; Part Number: 865080553014; Manufacturer: Würth Elektronik; Impedance: 210 mOhms; Lifetime @ Temp.: 2000 Hrs @ 105°C; Polarization: Polar; Ripple Current @ High Frequency: 570mA @ 100kHz; Ripple Current @ Low Frequency: 370.5mA @ 120Hz; Surface Mount Land Size: 0.327" L x 0.327" W (8.30mm x 8.30mm); Voltage - Rated: 35V; Applications: General Purpose; Capacitance: 220µF; ComponentLink1Description: Datasheet; ComponentLink1URL: https://katalog.we-online.de/pbs/datasheet/865080553014.pdf; ComponentLink2Description: DigiKey Link; ComponentLink2URL: http://digikey.com/product-detail/en/w-rth-elektronik/865080553014/732-8513-1-ND/5728470; Device Package: Radial, Can - SMD; Height - Seated (Max): 0.413" (10.50mm); LastUpdated: 9/2/2020 1:25:13 AM; Lifecycle Status: Active; Minimum Order: 1; Mounting Type: Surface Mount; Operating Temperature: -55°C ~ 105°C; Package / Case: Radial, Can - SMD; Packaging: TapeAndReel; PartId: 7800; Part Status: Active; Price: 0.36; Series: WCAP-ASLI; Size / Dimension: 0.315" Dia (8.00mm); Supplier 1: DigiKey; Supplier Part Number 1: 732-8513-1-ND; Tolerance: ±20%; Value: 220µF
footprint CAP ALSMD 8.3MM H10.5MM
pins: 1, 2

## 865080640001
designator C?, comment 1µF
CAP 1 UF 20% 50 V; Part Number: 865080640001; Manufacturer: Würth Elektronik; Impedance: 4.5 Ohms; Lifetime @ Temp.: 2000 Hrs @ 105°C; Polarization: Polar; Ripple Current @ High Frequency: 55mA @ 100kHz; Ripple Current @ Low Frequency: 32.45mA @ 120Hz; Surface Mount Land Size: 0.169" L x 0.169" W (4.30mm x 4.30mm); Voltage - Rated: 50V; Applications: General Purpose; Capacitance: 1µF; ComponentLink1Description: Datasheet; ComponentLink1URL: https://katalog.we-online.de/pbs/datasheet/865080640001.pdf; ComponentLink2Description: DigiKey Link; ComponentLink2URL: http://digikey.com/product-detail/en/w-rth-elektronik/865080640001/732-8446-1-ND/5728403; Device Package: Radial, Can - SMD; Height - Seated (Max): 0.217" (5.50mm); LastUpdated: 9/2/2020 1:23:44 AM; Lifecycle Status: Active; Minimum Order: 1; Mounting Type: Surface Mount; Operating Temperature: -55°C ~ 105°C; Package / Case: Radial, Can - SMD; Packaging: TapeAndReel; PartId: 7402; Part Status: Active; Price: 0.10; Series: WCAP-ASLI; Size / Dimension: 0.157" Dia (4.00mm); Supplier 1: DigiKey; Supplier Part Number 1: 732-8446-1-ND; Tolerance: ±20%; Value: 1µF
footprint CAP ALSMD POLY 4.3MM H5.5MM
pins: 1, 2

## 865080640002
designator C?, comment 2.2µF
CAP 2.2 UF 20% 50 V; Part Number: 865080640002; Manufacturer: Würth Elektronik; Impedance: 4.5 Ohms; Lifetime @ Temp.: 2000 Hrs @ 105°C; Polarization: Polar; Ripple Current @ High Frequency: 55mA @ 100kHz; Ripple Current @ Low Frequency: 32.45mA @ 120Hz; Surface Mount Land Size: 0.169" L x 0.169" W (4.30mm x 4.30mm); Voltage - Rated: 50V; Applications: General Purpose; Capacitance: 2.2µF; ComponentLink1Description: Datasheet; ComponentLink1URL: https://katalog.we-online.de/pbs/datasheet/865080640002.pdf; ComponentLink2Description: DigiKey Link; ComponentLink2URL: http://digikey.com/product-detail/en/w-rth-elektronik/865080640002/732-8447-1-ND/5728404; Device Package: Radial, Can - SMD; Height - Seated (Max): 0.217" (5.50mm); LastUpdated: 9/2/2020 1:23:45 AM; Lifecycle Status: Active; Minimum Order: 1; Mounting Type: Surface Mount; Operating Temperature: -55°C ~ 105°C; Package / Case: Radial, Can - SMD; Packaging: TapeAndReel; PartId: 7381; Part Status: Active; Price: 0.10; Series: WCAP-ASLI; Size / Dimension: 0.157" Dia (4.00mm); Supplier 1: DigiKey; Supplier Part Number 1: 732-8447-1-ND; Tolerance: ±20%; Value: 2.2µF
footprint CAP ALSMD POLY 4.3MM H5.5MM
pins: 1, 2

## 865080640003
designator C?, comment 3.3µF
CAP 3.3 UF 20% 50 V; Part Number: 865080640003; Manufacturer: Würth Elektronik; Impedance: 4.5 Ohms; Lifetime @ Temp.: 2000 Hrs @ 105°C; Polarization: Polar; Ripple Current @ High Frequency: 55mA @ 100kHz; Ripple Current @ Low Frequency: 32.45mA @ 120Hz; Surface Mount Land Size: 0.169" L x 0.169" W (4.30mm x 4.30mm); Voltage - Rated: 50V; Applications: General Purpose; Capacitance: 3.3µF; ComponentLink1Description: Datasheet; ComponentLink1URL: https://katalog.we-online.de/pbs/datasheet/865080640003.pdf; ComponentLink2Description: DigiKey Link; ComponentLink2URL: http://digikey.com/product-detail/en/w-rth-elektronik/865080640003/732-8448-1-ND/5728405; Device Package: Radial, Can - SMD; Height - Seated (Max): 0.217" (5.50mm); LastUpdated: 9/2/2020 1:23:44 AM; Lifecycle Status: Active; Minimum Order: 1; Mounting Type: Surface Mount; Operating Temperature: -55°C ~ 105°C; Package / Case: Radial, Can - SMD; Packaging: TapeAndReel; PartId: 7406; Part Status: Active; Price: 0.10; Series: WCAP-ASLI; Size / Dimension: 0.157" Dia (4.00mm); Supplier 1: DigiKey; Supplier Part Number 1: 732-8448-1-ND; Tolerance: ±20%; Value: 3.3µF
footprint CAP ALSMD POLY 4.3MM H5.5MM
pins: 1, 2

## 865080640004
designator C?, comment 4.7µF
CAP 4.7 UF 20% 50 V; Part Number: 865080640004; Manufacturer: Würth Elektronik; Impedance: 4.5 Ohms; Lifetime @ Temp.: 2000 Hrs @ 105°C; Polarization: Polar; Ripple Current @ High Frequency: 55mA @ 100kHz; Ripple Current @ Low Frequency: 32.45mA @ 120Hz; Surface Mount Land Size: 0.169" L x 0.169" W (4.30mm x 4.30mm); Voltage - Rated: 50V; Applications: General Purpose; Capacitance: 4.7µF; ComponentLink1Description: Datasheet; ComponentLink1URL: https://katalog.we-online.de/pbs/datasheet/865080640004.pdf; ComponentLink2Description: DigiKey Link; ComponentLink2URL: http://digikey.com/product-detail/en/w-rth-elektronik/865080640004/732-8449-1-ND/5728406; Device Package: Radial, Can - SMD; Height - Seated (Max): 0.217" (5.50mm); LastUpdated: 9/2/2020 1:23:44 AM; Lifecycle Status: Active; Minimum Order: 1; Mounting Type: Surface Mount; Operating Temperature: -55°C ~ 105°C; Package / Case: Radial, Can - SMD; Packaging: TapeAndReel; PartId: 7420; Part Status: Active; Price: 0.09; Series: WCAP-ASLI; Size / Dimension: 0.157" Dia (4.00mm); Supplier 1: DigiKey; Supplier Part Number 1: 732-8449-1-ND; Tolerance: ±20%; Value: 4.7µF
footprint CAP ALSMD POLY 4.3MM H5.5MM
pins: 1, 2

## 865080642005
designator C?, comment 6.8µF
CAP 6.8 UF 20% 50 V; Part Number: 865080642005; Manufacturer: Würth Elektronik; Impedance: 3.8 Ohms; Lifetime @ Temp.: 2000 Hrs @ 105°C; Polarization: Polar; Ripple Current @ High Frequency: 75mA @ 100kHz; Ripple Current @ Low Frequency: 44.25mA @ 120Hz; Surface Mount Land Size: 0.209" L x 0.209" W (5.30mm x 5.30mm); Voltage - Rated: 50V; Applications: General Purpose; Capacitance: 6.8µF; ComponentLink1Description: Datasheet; ComponentLink1URL: https://katalog.we-online.de/pbs/datasheet/865080642005.pdf; ComponentLink2Description: DigiKey Link; ComponentLink2URL: http://digikey.com/product-detail/en/w-rth-elektronik/865080642005/732-8450-1-ND/5728407; Device Package: Radial, Can - SMD; Height - Seated (Max): 0.217" (5.50mm); LastUpdated: 9/2/2020 1:25:23 AM; Lifecycle Status: Active; Minimum Order: 1; Mounting Type: Surface Mount; Operating Temperature: -55°C ~ 105°C; Package / Case: Radial, Can - SMD; Packaging: TapeAndReel; PartId: 7907; Part Status: Active; Price: 0.11; Series: WCAP-ASLI; Size / Dimension: 0.197" Dia (5.00mm); Supplier 1: DigiKey; Supplier Part Number 1: 732-8450-1-ND; Tolerance: ±20%; Value: 6.8µF
footprint CAP ALSMD 5.3MM H5.4MM
pins: 1, 2

## 865080642006
designator C?, comment 10µF
CAP 10 UF 20% 50 V; Part Number: 865080642006; Manufacturer: Würth Elektronik; Impedance: 2.8 Ohms; Lifetime @ Temp.: 2000 Hrs @ 105°C; Polarization: Polar; Ripple Current @ High Frequency: 95mA @ 100kHz; Ripple Current @ Low Frequency: 56.05mA @ 120Hz; Surface Mount Land Size: 0.209" L x 0.209" W (5.30mm x 5.30mm); Voltage - Rated: 50V; Applications: General Purpose; Capacitance: 10µF; ComponentLink1Description: Datasheet; ComponentLink1URL: https://katalog.we-online.de/pbs/datasheet/865080642006.pdf; ComponentLink2Description: DigiKey Link; ComponentLink2URL: http://digikey.com/product-detail/en/w-rth-elektronik/865080642006/732-8451-1-ND/5728408; Device Package: Radial, Can - SMD; Height - Seated (Max): 0.217" (5.50mm); LastUpdated: 9/2/2020 1:25:23 AM; Lifecycle Status: Active; Minimum Order: 1; Mounting Type: Surface Mount; Operating Temperature: -55°C ~ 105°C; Package / Case: Radial, Can - SMD; Packaging: TapeAndReel; PartId: 7919; Part Status: Active; Price: 0.11; Series: WCAP-ASLI; Size / Dimension: 0.197" Dia (5.00mm); Supplier 1: DigiKey; Supplier Part Number 1: 732-8451-1-ND; Tolerance: ±20%; Value: 10µF
footprint CAP ALSMD 5.3MM H5.4MM
pins: 1, 2

## 865080643007
designator C?, comment 15µF
CAP 15 UF 20% 50 V; Part Number: 865080643007; Manufacturer: Würth Elektronik; Impedance: 1.6 Ohms; Lifetime @ Temp.: 2000 Hrs @ 105°C; Polarization: Polar; Ripple Current @ High Frequency: 140mA @ 100kHz; Ripple Current @ Low Frequency: 91mA @ 120Hz; Surface Mount Land Size: 0.260" L x 0.260" W (6.60mm x 6.60mm); Voltage - Rated: 50V; Applications: General Purpose; Capacitance: 15µF; ComponentLink1Description: Datasheet; ComponentLink1URL: https://katalog.we-online.de/pbs/datasheet/865080643007.pdf; ComponentLink2Description: DigiKey Link; ComponentLink2URL: http://digikey.com/product-detail/en/w-rth-elektronik/865080643007/732-8452-1-ND/5728409; Device Package: Radial, Can - SMD; Height - Seated (Max): 0.217" (5.50mm); LastUpdated: 9/2/2020 1:18:39 AM; Lifecycle Status: Active; Minimum Order: 1; Mounting Type: Surface Mount; Operating Temperature: -55°C ~ 105°C; Package / Case: Radial, Can - SMD; Packaging: TapeAndReel; PartId: 8992; Part Status: Active; Price: 0.14; Series: WCAP-ASLI; Size / Dimension: 0.248" Dia (6.30mm); Supplier 1: DigiKey; Supplier Part Number 1: 732-8452-1-ND; Tolerance: ±20%; Value: 15µF
footprint CAP ALSMD 6.6MM H6.1MM
pins: 1, 2

## 865080643008
designator C?, comment 22µF
CAP 22 UF 20% 50 V; Part Number: 865080643008; Manufacturer: Würth Elektronik; Impedance: 1.3 Ohms; Lifetime @ Temp.: 2000 Hrs @ 105°C; Polarization: Polar; Ripple Current @ High Frequency: 150mA @ 100kHz; Ripple Current @ Low Frequency: 97.5mA @ 120Hz; Surface Mount Land Size: 0.260" L x 0.260" W (6.60mm x 6.60mm); Voltage - Rated: 50V; Applications: General Purpose; Capacitance: 22µF; ComponentLink1Description: Datasheet; ComponentLink1URL: https://katalog.we-online.de/pbs/datasheet/865080643008.pdf; ComponentLink2Description: DigiKey Link; ComponentLink2URL: http://digikey.com/product-detail/en/w-rth-elektronik/865080643008/732-8453-1-ND/5728410; Device Package: Radial, Can - SMD; Height - Seated (Max): 0.217" (5.50mm); LastUpdated: 9/2/2020 1:18:39 AM; Lifecycle Status: Active; Minimum Order: 1; Mounting Type: Surface Mount; Operating Temperature: -55°C ~ 105°C; Package / Case: Radial, Can - SMD; Packaging: TapeAndReel; PartId: 8986; Part Status: Active; Price: 0.14; Series: WCAP-ASLI; Size / Dimension: 0.248" Dia (6.30mm); Supplier 1: DigiKey; Supplier Part Number 1: 732-8453-1-ND; Tolerance: ±20%; Value: 22µF
footprint CAP ALSMD 6.6MM H6.1MM
pins: 1, 2

## 865080645009
designator C?, comment 27µF
CAP 27 UF 20% 50 V; Part Number: 865080645009; Manufacturer: Würth Elektronik; Impedance: 1.2 Ohms; Lifetime @ Temp.: 2000 Hrs @ 105°C; Polarization: Polar; Ripple Current @ High Frequency: 180mA @ 100kHz; Ripple Current @ Low Frequency: 117mA @ 120Hz; Surface Mount Land Size: 0.260" L x 0.260" W (6.60mm x 6.60mm); Voltage - Rated: 50V; Applications: General Purpose; Capacitance: 27µF; ComponentLink1Description: Datasheet; ComponentLink1URL: https://katalog.we-online.de/pbs/datasheet/865080645009.pdf; ComponentLink2Description: DigiKey Link; ComponentLink2URL: http://digikey.com/product-detail/en/w-rth-elektronik/865080645009/732-8454-1-ND/5728411; Device Package: Radial, Can - SMD; Height - Seated (Max): 0.303" (7.70mm); LastUpdated: 9/2/2020 1:25:34 AM; Lifecycle Status: Active; Minimum Order: 1; Mounting Type: Surface Mount; Operating Temperature: -55°C ~ 105°C; Package / Case: Radial, Can - SMD; Packaging: TapeAndReel; PartId: 8300; Part Status: Active; Price: 0.18; Series: WCAP-ASLI; Size / Dimension: 0.248" Dia (6.30mm); Supplier 1: DigiKey; Supplier Part Number 1: 732-8454-1-ND; Tolerance: ±20%; Value: 27µF
footprint CAP ALSMD 6.6MM H7.7MM
pins: 1, 2

## 865080645010
designator C?, comment 33µF
CAP 33 UF 20% 50 V; Part Number: 865080645010; Manufacturer: Würth Elektronik; Impedance: 710 mOhms; Lifetime @ Temp.: 2000 Hrs @ 105°C; Polarization: Polar; Ripple Current @ High Frequency: 190mA @ 100kHz; Ripple Current @ Low Frequency: 123.5mA @ 120Hz; Surface Mount Land Size: 0.260" L x 0.260" W (6.60mm x 6.60mm); Voltage - Rated: 50V; Applications: General Purpose; Capacitance: 33µF; ComponentLink1Description: Datasheet; ComponentLink1URL: https://katalog.we-online.de/pbs/datasheet/865080645010.pdf; ComponentLink2Description: DigiKey Link; ComponentLink2URL: http://digikey.com/product-detail/en/w-rth-elektronik/865080645010/732-8455-1-ND/5728412; Device Package: Radial, Can - SMD; Height - Seated (Max): 0.303" (7.70mm); LastUpdated: 9/2/2020 1:25:35 AM; Lifecycle Status: Active; Minimum Order: 1; Mounting Type: Surface Mount; Operating Temperature: -55°C ~ 105°C; Package / Case: Radial, Can - SMD; Packaging: TapeAndReel; PartId: 8231; Part Status: Active; Price: 0.20; Series: WCAP-ASLI; Size / Dimension: 0.248" Dia (6.30mm); Supplier 1: DigiKey; Supplier Part Number 1: 732-8455-1-ND; Tolerance: ±20%; Value: 33µF
footprint CAP ALSMD 6.6MM H7.7MM
pins: 1, 2

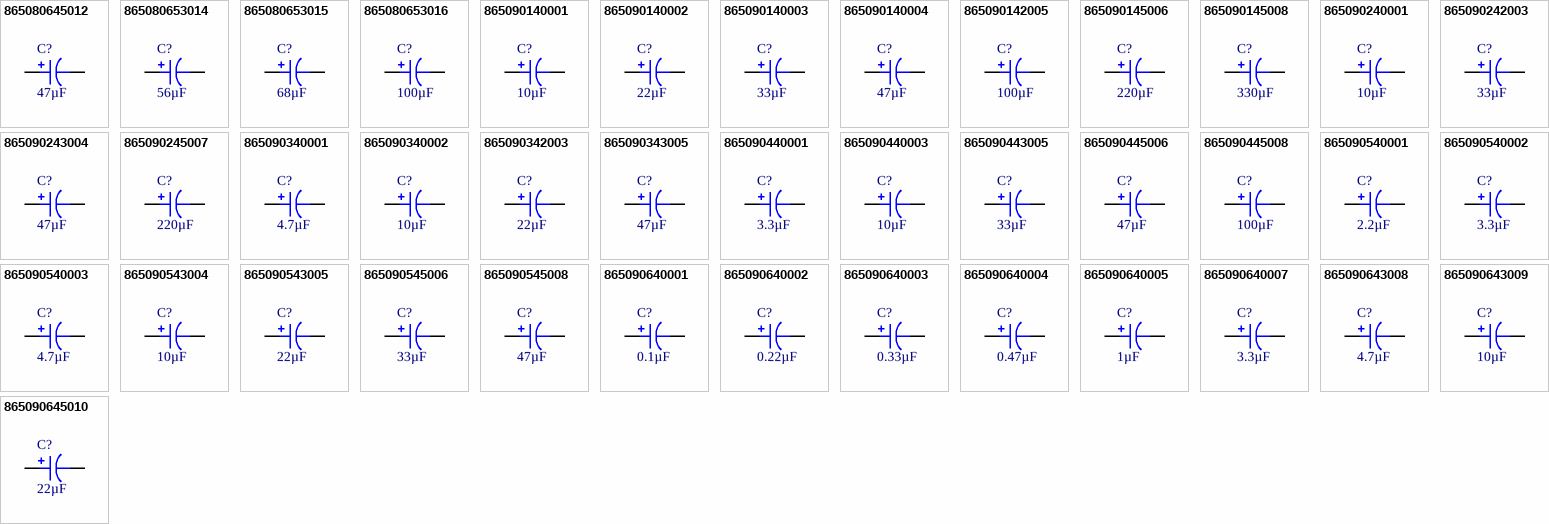
[diagram p9: symbols 865080645012 to 865090645010]

## 865080645012
designator C?, comment 47µF
CAP 47 UF 20% 50 V; Part Number: 865080645012; Manufacturer: Würth Elektronik; Impedance: 700 mOhms; Lifetime @ Temp.: 2000 Hrs @ 105°C; Polarization: Polar; Ripple Current @ High Frequency: 230mA @ 100kHz; Ripple Current @ Low Frequency: 149.5mA @ 120Hz; Surface Mount Land Size: 0.260" L x 0.260" W (6.60mm x 6.60mm); Voltage - Rated: 50V; Applications: General Purpose; Capacitance: 47µF; ComponentLink1Description: Datasheet; ComponentLink1URL: https://katalog.we-online.de/pbs/datasheet/865080645012.pdf; ComponentLink2Description: DigiKey Link; ComponentLink2URL: http://digikey.com/product-detail/en/w-rth-elektronik/865080645012/732-8457-1-ND/5728414; Device Package: Radial, Can - SMD; Height - Seated (Max): 0.303" (7.70mm); LastUpdated: 9/2/2020 1:25:33 AM; Lifecycle Status: Active; Minimum Order: 1; Mounting Type: Surface Mount; Operating Temperature: -55°C ~ 105°C; Package / Case: Radial, Can - SMD; Packaging: TapeAndReel; PartId: 8340; Part Status: Active; Price: 0.18; Series: WCAP-ASLI; Size / Dimension: 0.248" Dia (6.30mm); Supplier 1: DigiKey; Supplier Part Number 1: 732-8457-1-ND; Tolerance: ±20%; Value: 47µF
footprint CAP ALSMD 6.6MM H7.7MM
pins: 1, 2

## 865080653014
designator C?, comment 56µF
CAP 56 UF 20% 50 V; Part Number: 865080653014; Manufacturer: Würth Elektronik; Impedance: 520 mOhms; Lifetime @ Temp.: 2000 Hrs @ 105°C; Polarization: Polar; Ripple Current @ High Frequency: 300mA @ 100kHz; Ripple Current @ Low Frequency: 195mA @ 120Hz; Surface Mount Land Size: 0.327" L x 0.327" W (8.30mm x 8.30mm); Voltage - Rated: 50V; Applications: General Purpose; Capacitance: 56µF; ComponentLink1Description: Datasheet; ComponentLink1URL: https://katalog.we-online.de/pbs/datasheet/865080653014.pdf; ComponentLink2Description: DigiKey Link; ComponentLink2URL: http://digikey.com/product-detail/en/w-rth-elektronik/865080653014/732-8459-1-ND/5728416; Device Package: Radial, Can - SMD; Height - Seated (Max): 0.413" (10.50mm); LastUpdated: 9/2/2020 1:25:13 AM; Lifecycle Status: Active; Minimum Order: 1; Mounting Type: Surface Mount; Operating Temperature: -55°C ~ 105°C; Package / Case: Radial, Can - SMD; Packaging: TapeAndReel; PartId: 7735; Part Status: Active; Price: 0.31; Series: WCAP-ASLI; Size / Dimension: 0.315" Dia (8.00mm); Supplier 1: DigiKey; Supplier Part Number 1: 732-8459-1-ND; Tolerance: ±20%; Value: 56µF
footprint CAP ALSMD 8.3MM H10.5MM
pins: 1, 2